# Altium footprint library 2506033007Y3.PcbLib: 3 footprints
Each footprint in its own frame and in the unit in brackets; x right, y up, seen from the top. Pads: shape width x height; smd on the part's side, far side on the other; paste and mask are expansions set on the pad; w line width, h text height; cw(c..) or ccw(c..) is an arc to the next point about the centre after c.
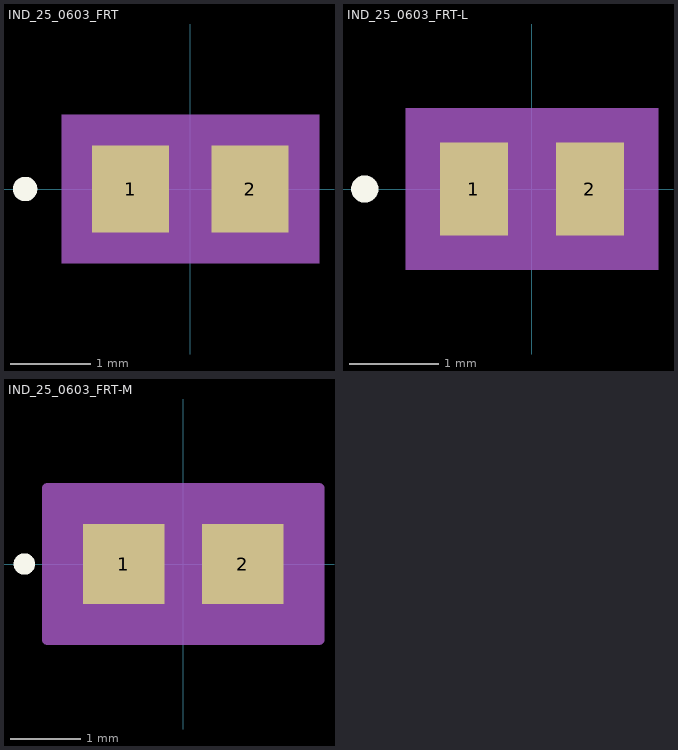
[diagram p0: the footprints below, top view; thin cyan lines are the x and y axes]

## IND_25_0603_FRT [mil]
pads (2):
  rect 37.78x43 smd paste+0 mask+0: 1(-29.39,0) 2(29.39,0)
Top Overlay:
  circle w6: c-81.28,0 r3
Mechanical 5:
  region: 63.28,-36.5 -63.28,-36.5 -63.28,36.5 63.28,36.5
Mechanical 13:
  circle w0: c-24.39,0 r3
  lines w1: -34.5,-21.5 -34.5,21.5 ; -34.5,-21.5 -10.5,-21.5 -10.5,21.5 -34.5,21.5 ; -34.5,-21.5 34.5,-21.5 ; -34.5,-21.5 -34.5,21.5 ; -34.5,21.5 34.5,21.5 ; 34.5,-21.5 10.5,-21.5 10.5,21.5 34.5,21.5 ; 34.5,-21.5 34.5,21.5 ; 34.5,-21.5 34.5,21.5
Mechanical 15:
  region: 58.28,-31.5 -58.28,-31.5 -58.28,31.5 58.28,31.5
  lines w6: -58.28,-31.5 -58.28,31.5 58.28,31.5 58.28,-31.5 -58.28,-31.5
3D body "IND_25_0603_FRT.step": height 42.99, standoff 0, extent -34.49,-21.5 34.49,21.5

## IND_25_0603_FRT-L [mil]
pads (2):
  rect 29.91x41.03 smd paste+0 mask+0: 1(-25.45,0) 2(25.45,0)
Top Overlay:
  circle w6: c-73.41,0 r3
Mechanical 5:
  region: 55.41,-35.52 -55.41,-35.52 -55.41,35.52 55.41,35.52
Mechanical 13:
  circle w0: c-20.45,0 r3
  lines w1: -34.5,-21.5 -34.5,21.5 ; -34.5,-21.5 -10.5,-21.5 -10.5,21.5 -34.5,21.5 ; -34.5,-21.5 34.5,-21.5 ; -34.5,-21.5 -34.5,21.5 ; -34.5,21.5 34.5,21.5 ; 34.5,-21.5 10.5,-21.5 10.5,21.5 34.5,21.5 ; 34.5,-21.5 34.5,21.5 ; 34.5,-21.5 34.5,21.5
Mechanical 15:
  region: 44.41,-24.52 -44.41,-24.52 -44.41,24.52 44.41,24.52
  lines w6: -44.41,-24.52 -44.41,24.52 44.41,24.52 44.41,-24.52 -44.41,-24.52
3D body "IND_25_0603_FRT.step": height 42.99, standoff 0, extent -34.49,-21.5 34.49,21.5

## IND_25_0603_FRT-M [mil]
pads (2):
  rect 45.65x44.97 smd paste+0 mask+0: 1(-33.33,0) 2(33.33,0)
Top Overlay:
  circle w6: c-89.15,0 r3
Mechanical 5:
  region: 71.15,-37.48 -71.15,-37.48 -71.15,37.48 71.15,37.48
Mechanical 13:
  circle w0: c-28.33,0 r3
  lines w1: -34.5,-21.5 -34.5,21.5 ; -34.5,-21.5 -10.5,-21.5 -10.5,21.5 -34.5,21.5 ; -34.5,-21.5 34.5,-21.5 ; -34.5,-21.5 -34.5,21.5 ; -34.5,21.5 34.5,21.5 ; 34.5,-21.5 10.5,-21.5 10.5,21.5 34.5,21.5 ; 34.5,-21.5 34.5,21.5 ; 34.5,-21.5 34.5,21.5
Mechanical 15:
  region: 76.15,-42.48 -76.15,-42.48 -76.15,42.48 76.15,42.48
  lines w6: -76.15,-42.48 -76.15,42.48 76.15,42.48 76.15,-42.48 -76.15,-42.48
3D body "IND_25_0603_FRT.step": height 42.99, standoff 0, extent -34.49,-21.5 34.49,21.5